# Altium schematic symbol library SN65HVD1782QDRQ1.SchLib: 1 symbol
Pins are listed as number, name and electrical type; pins without a type are passive.

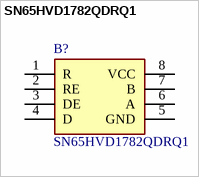
[diagram p0: symbol SN65HVD1782QDRQ1]

## SN65HVD1782QDRQ1
designator B?
Automotive Fault-Protected RS-485 Transceivers with 3.3-V to 5-V Operation; Manufacturer_Name: Texas Instruments; Geometry.Height: 1.75mm; Manufacturer_Part_Number: SN65HVD1782QDRQ1; Mouser Part Number: 595-SN65HVD1782QDRQ1; Mouser Price/Stock: https://www.mouser.co.uk/ProductDetail/Texas-Instruments/SN65HVD1782QDRQ1?qs=8%2FmU9qzJpL8mmEwMbjC79g%3D%3D; Arrow Part Number: SN65HVD1782QDRQ1; Arrow Price/Stock: https://www.arrow.com/en/products/sn65hvd1782qdrq1/texas-instruments?region=nac; Datasheet Link: http://www.ti.com/lit/ds/symlink/sn65hvd1782-q1.pdf
footprint SOIC127P600X175-8N
pins: 1 R, 2 RE, 3 DE, 4 D, 5 GND, 6 A, 7 B, 8 VCC